# Altium schematic symbol library eyes_hvac_v1_pcb.SchLib: 21 symbols
Pins are listed as number, name and electrical type; pins without a type are passive.

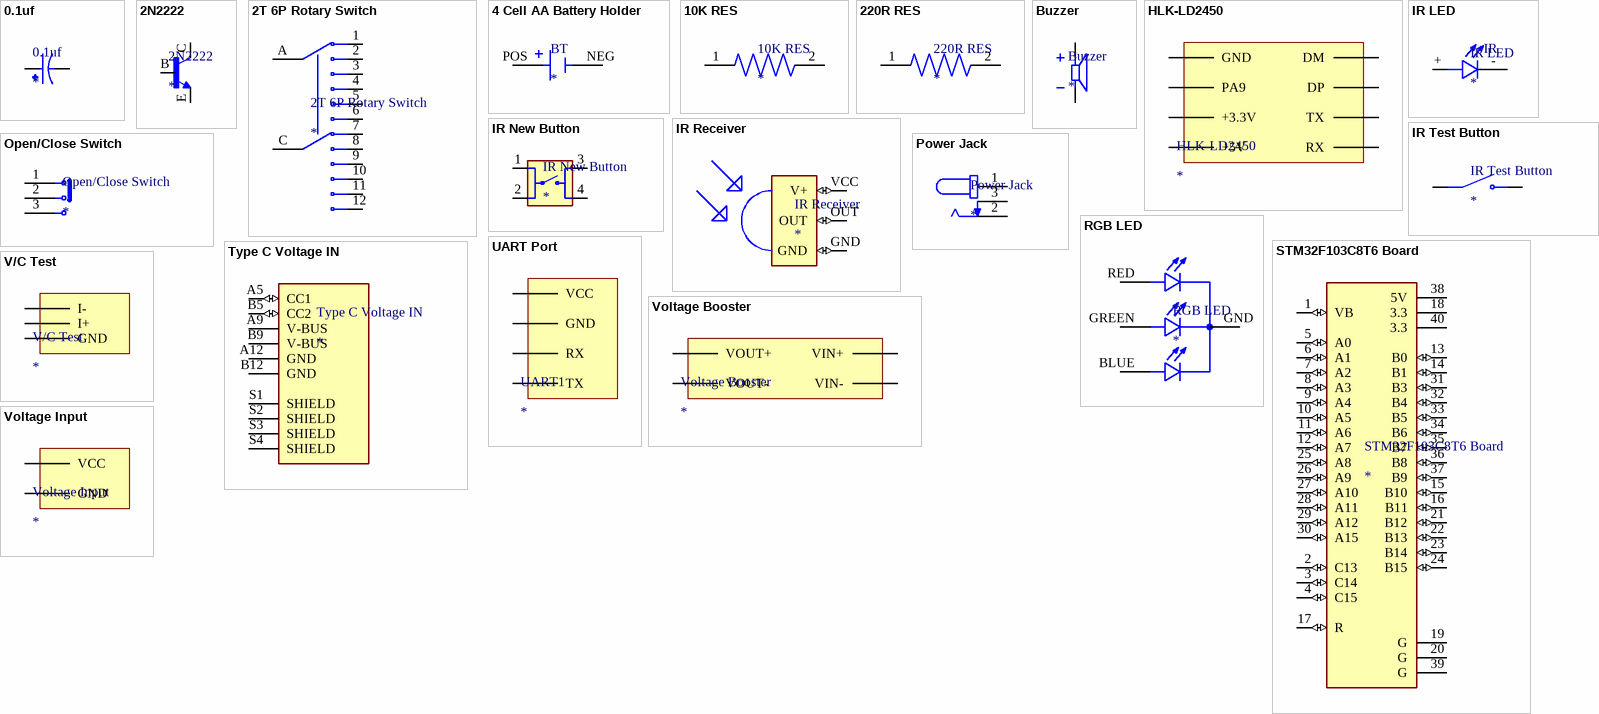
[diagram p0: symbols 0.1uf to Voltage Input]

## 0.1uf
designator 0.1uf
CAP ALUM 33UF 20% 100V THRU HOLE; MF: Panasonic; MP: EEUFS2A330B; Value: *; Check_prices: https://www.snapeda.com/parts/EEUFS2A330B/Panasonic/view-part/5795625/?ref=eda; Price: None; SnapEDA_Link: https://www.snapeda.com/parts/EEUFS2A330B/Panasonic/view-part/5795625/?ref=snap; Availability: In Stock; Package: RADIAL-2 Panasonic
footprint CAP 0.1UF
pins: N, P

## 2N2222
designator 2N2222
Bipolar (BJT) Transistor NPN 40 V 600 mA 250MHz 625 mW Through Hole TO-92; MF: Diotec Semiconductor; MP: 2N2222A; Package: TO-92-3 Diotec; Check_prices: https://www.snapeda.com/parts/2N2222A/Diotec/view-part/?ref=eda; Value: *; Purchase-URL: https://pricing.snapeda.com/search/part/2N2222A/?ref=eda; Availability: In Stock; SnapEDA_Link: https://www.snapeda.com/parts/2N2222A/Diotec/view-part/?ref=snap; Price: None
footprint 2N2222
pins: B, C, E

## 2T 6P Rotary Switch
designator 2T 6P Rotary Switch
MP: KC26A30.001NPS; Availability: Unavailable; Package: None; Price: None; Value: *
footprint 2POL 6POS Rotary Switch
pins: 1, 2, 3, 4, 5, 6, 7, 8, 9, 10, 11, 12, A, C

## 4 Cell AA Battery Holder
designator BT
BATTERY HOLDER AA 4 CELL SMD TAB; MP: BC4AAB; MF: MPD; Package: None; Availability: Warning; Value: *; Price: None; DigiKey-Purchase-URL: https://snapeda.com/shop?store=DigiKey&id=4389075; SnapEDA_Link: https://www.snapeda.com/parts/BC4AAB/MPD/view-part/4389075/?ref=snap
footprint 4 CELL AA BATTERY HOLDER
pins: NEG, POS

## 10K RES
designator 10K RES
220 Ohms Â±5% 0.25W, 1/4W Through Hole Resistor Axial - Carbon Film; MF: TE Connectivity; MP: 3-1623927-1; Price: None; SnapEDA_Link: https://www.snapeda.com/parts/3-1623927-1/TE+Connectivity/view-part/?ref=snap; Check_prices: https://www.snapeda.com/parts/3-1623927-1/TE+Connectivity/view-part/?ref=eda; Value: *; Package: None; Availability: In Stock
footprint RES
pins: 1, 2

## 220R RES
designator 220R RES
220 Ohms Â±5% 0.25W, 1/4W Through Hole Resistor Axial - Carbon Film; MF: TE Connectivity; MP: 3-1623927-1; Price: None; SnapEDA_Link: https://www.snapeda.com/parts/3-1623927-1/TE+Connectivity/view-part/?ref=snap; Check_prices: https://www.snapeda.com/parts/3-1623927-1/TE+Connectivity/view-part/?ref=eda; Value: *; Package: None; Availability: In Stock
footprint RES
pins: 1, 2

## Buzzer
designator Buzzer
12 mm, 12 Vdc, 85 dB, Through Hole, Driving Circuit, Magnetic Audio Indicator Buzzer; MF: CUI Devices; MP: CMI-1295-1285T; Check_prices: https://www.snapeda.com/parts/CMI-1295-1285T/CUI+Devices/view-part/?ref=eda; Digi-Key_Part_Number: 102-CMI-1295-1285T-ND; Value: *; Package: CUI Inc.; SnapEDA_Link: https://www.snapeda.com/parts/CMI-1295-1285T/CUI+Devices/view-part/?ref=snap; Purchase-URL: https://pricing.snapeda.com/search/part/CMI-1295-1285T/?ref=eda; CUI_purchase_URL: https://www.cuidevices.com/product/audio/buzzers/audio-indicators/cmi-1295-1285t?utm_source=snapeda.com&utm_medium=referral&utm_campaign=snapedaBOM
footprint Buzzer
pins: N, P

## HLK-LD2450
designator HLK-LD2450
footprint HLK-LD2450
pins: +3.3V, +5V, DM, DP, GND, PA9, RX, TX

## IR LED
designator IR LED
Infrared _IR_ Emitter 940nm 1.35V 100mA 40mW/sr @ 100mA 34Â° Radial, 5mm Dia _T 1 3/4_; MP: TSAL6200; MF: Vishay; Price: None; SnapEDA_Link: https://www.snapeda.com/parts/TSAL6200/Vishay%20Semiconductor%20Opto%20Division/view-part/1186623/?ref=snap; Package: Radial Vishay; Availability: Unavailable; Value: *
footprint IR LED
pins: +, -
text: IR

## IR New Button
designator IR New Button
Tactile Switch SPST-NO Top Actuated Through Hole; MP: FSM8JH; MF: TE Connectivity; Check_prices: https://www.snapeda.com/parts/FSM8JH/TE+Connectivity+ALCOSWITCH+Switches/view-part/?ref=eda; Value: *; Availability: In Stock; Price: None; Package: None; SnapEDA_Link: https://www.snapeda.com/parts/FSM8JH/TE+Connectivity+ALCOSWITCH+Switches/view-part/?ref=snap
footprint IR New Button
pins: 1, 2, 3, 4

## IR Receiver
designator IR Receiver
IR Receiver and Demodulator; MP: TSOP1838; Value: *; Package: None; Availability: Unavailable; Price: None
footprint IR Receiver
pins: GND (io), OUT (io), VCC V+ (io)

## IR Test Button
designator IR Test Button
Switch Tactile OFF (ON) SPST Extended Square Button PC Pins 0.05A 12VDC 2.55N Thru-Hole Loose Piece; MF: TE Connectivity / AMP; MP: 1571627-1; Value: *; SnapEDA_Link: https://www.snapeda.com/parts/1571627-1/TE+Connectivity+%252F+AMP/view-part/?ref=snap; EU_RoHS_Compliance: Compliant; Availability: In Stock; Price: None; Package: None; Check_prices: https://www.snapeda.com/parts/1571627-1/TE+Connectivity+%252F+AMP/view-part/?ref=eda
footprint IR Test Button
pins: 1 COM, 2 COM, 3 NO, 4 NO

## Open/Close Switch
designator Open/Close Switch
Slide Switch SPDT Through Hole; MP: 1825159-1; Configuration_Pole-Throw: Single Pole - Double Throw; Contact_Current_Rating: .25 A; MF: TE Connectivity; Value: *; SnapEDA_Link: https://www.snapeda.com/parts/1825159-1/TE+Connectivity+ALCOSWITCH+Switches/view-part/?ref=snap; Switch_Type: Slide; Purchase-URL: https://pricing.snapeda.com/search/part/1825159-1/?ref=eda; Check_prices: https://www.snapeda.com/parts/1825159-1/TE+Connectivity+ALCOSWITCH+Switches/view-part/?ref=eda; Availability: In Stock; EU_RoHS_Compliance: Compliant; Price: None; Package: None
footprint Open/Close Switch
pins: 1, 2, 3

## Power Jack
designator Power Jack
2.0 x 6.5 mm, 2.5 A, Horizontal, Through Hole, Dc Power Jack Connector; MP: PJ-002A; MF: CUI Devices; Check_prices: https://www.snapeda.com/parts/PJ-002A/CUI+Devices/view-part/?ref=eda; Availability: In Stock; CUI_purchase_URL: https://www.cuidevices.com/product/interconnect/connectors/dc-power-connectors/jacks/pj-002a?utm_source=snapeda.com&utm_medium=referral&utm_campaign=snapedaBOM; SnapEDA_Link: https://www.snapeda.com/parts/PJ-002A/CUI+Devices/view-part/?ref=snap; Purchase-URL: https://pricing.snapeda.com/search/part/PJ-002A/?ref=eda; Price: None; Package: None; Value: *
footprint Power Jack
pins: 1, 2, 3

## RGB LED
designator RGB LED
Red, Green, Blue (RGB) - LED Indication - Discrete 2.1V Red, 3.2V Green, 3.2V Blue Radial; MF: NTE Electronics, Inc; MP: NTE30155; Purchase-URL: https://pricing.snapeda.com/search/part/NTE30155/?ref=eda; SnapEDA_Link: https://www.snapeda.com/parts/NTE30155/NTE+Electronics/view-part/?ref=snap; Price: None; Package: Radial NTE Electronics; Value: *; Check_prices: https://www.snapeda.com/parts/NTE30155/NTE+Electronics/view-part/?ref=eda; Availability: In Stock
footprint RGB LED
pins: BLUE, GND, GREEN, RED

## STM32F103C8T6 Board
designator STM32F103C8T6 Board
STM32F103C8T6 ARM STM32 Minimum System Development Board Module For Arduino; MP: ZC323000; Package: None; Value: *; Availability: Unavailable; Price: None
footprint STM32F103C8T6 Board
pins: 1 VB (io), 2 C13 (io), 3 C14 (io), 4 C15 (io), 5 A0 (io), 6 A1 (io), 7 A2 (io), 8 A3 (io), 9 A4 (io), 10 A5 (io), 11 A6 (io), 12 A7 (io), 13 B0 (io), 14 B1 (io), 15 B10 (io), 16 B11 (io), 17 R (io), 18 3.3 (power), 19 G (power), 20 G (power), 21 B12 (io), 22 B13 (io), 23 B14 (io), 24 B15 (io), 25 A8 (io), 26 A9 (io), 27 A10 (io), 28 A11 (io), 29 A12 (io), 30 A15 (io), 31 B3 (io), 32 B4 (io), 33 B5 (io), 34 B6 (io), 35 B7 (io), 36 B8 (io), 37 B9 (io), 38 5V (power), 39 G (power), 40 3.3 (power)

## Type C Voltage IN
designator Type C Voltage IN
Type C, 3 A, Right Angle, Surface Mount (SMT), Power-Only USB Receptacle; MP: UJC-HP-3-SMT-TR; Value: *; Availability: Unavailable; Price: None; Package: None
footprint Type C Voltage IN
pins: A5 CC1 (io), A9 V-BUS (power), A12 GND (power), B5 CC2 (io), B9 V-BUS (power), B12 GND (power), S1 SHIELD, S2 SHIELD, S3 SHIELD, S4 SHIELD

## UART Port
designator UART1
footprint UART Port
pins: GND, RX, TX, VCC

## V/C Test
designator V/C Test
footprint V/C TEST
pins: GND, VCC I+, VCC_2 I-

## Voltage Booster
designator Voltage Booster
footprint Voltage Booster Small
footprint Voltage Booster Tall
pins: VIN+, VIN-, VOUT+, VOUT-

## Voltage Input
designator Voltage Input
footprint Voltage Input
pins: GND, VCC